# Altium footprint library jack sound.PcbLib: 1 footprints
Each footprint in its own frame and in the unit in brackets; x right, y up, seen from the top. Pads: shape width x height; smd on the part's side, far side on the other; paste and mask are expansions set on the pad; w line width, h text height; cw(c..) or ccw(c..) is an arc to the next point about the centre after c.
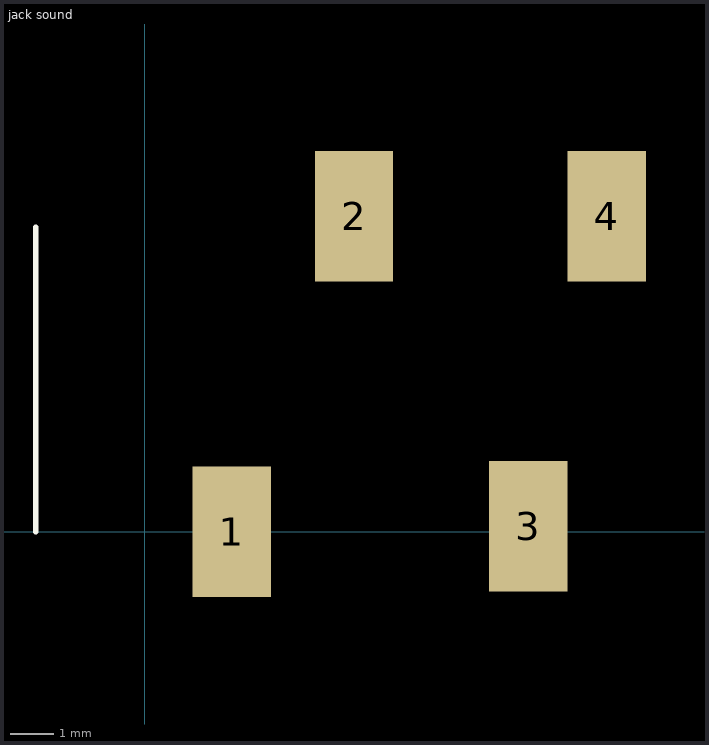
[diagram p0: the footprint, top view; thin cyan lines are the x and y axes]

## jack sound [mm]
pads (4):
  rect 1.8x3 smd: 1(2,0) 2(4.8,7.239) 3(8.8,0.127) 4(10.6,7.239)
Top Overlay:
  lines w0.127: -2.5,0 -2.5,6.985